# Altium schematic symbol library Mosfet.SchLib: 1 symbol
Pins are listed as number, name and electrical type; pins without a type are passive.

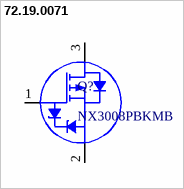
[diagram p0: symbol 72.19.0071]

## 72.19.0071
designator Q?, comment NX3008PBKMB
MOSFET P-CH SMD 30V SOT-883; Manufacturer: NXP USA Inc; FET Type: P-Channel; Rds On (Max) @ Id, Vgs: 4.1Ohm @ 200mA, 4.5V; Input Capacitance (Ciss) (Max) @Vds: 46 pF @ 15 V; Vgs(th) (Max) Id: 1.1V @ 250µA; Current - Continuous Drain (Id) @25°C: 300mA; Gate Charge (Qg) (Max) @ Vgs: 0.72 nC @ 4.5 V; Power Dissipation (Max): 2.7W; Vgs (Max): ±8V; Part Number: NX3008PBKMB; Price: 1=, 10=, 100= (USD); Package / Case: SOT-883; Operating Temperature: -55 C ~ 150 C; Drain to Source Voltage (Vds): 30V; Library Ref: Mosfet; Drive Voltage (Max Rds On, Min Rds On): -; Rise / Fall Time (Typ): -; ComponentLink1Description: Datasheet; ComponentLink1URL: https://fscdn.rohm.com/en/products/databook/datasheet/discrete/transistor/mosfet/rd3g07battl1-e.pdf; ComponentLink2Description: Mouser; ComponentLink2URL: https://br.mouser.com/ProductDetail/ROHM-Semiconductor/RD3G07BATTL1?qs=IS%252B4QmGtzzrhhJQumqWXMA%3D%3D
footprint SOT-883
pins: 1 G, 2 S, 3 D